# Altium footprint library BeaconBoard.PcbLib: 34 footprints (part 3 of 3)
Each footprint in its own frame and in the unit in brackets; x right, y up, seen from the top. Pads: shape width x height; smd on the part's side, far side on the other; paste and mask are expansions set on the pad; w line width, h text height; cw(c..) or ccw(c..) is an arc to the next point about the centre after c.
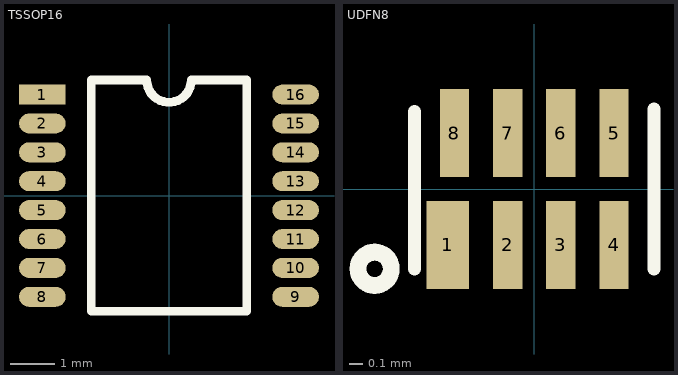
[diagram p2: the footprints below, top view; thin cyan lines are the x and y axes]

## TSSOP16 [mm]
pads (16):
  rect 1.05x0.45 smd: 1(-2.85,2.275)
  oval 1.05x0.45 smd: 2(-2.85,1.625) 3(-2.85,0.975) 4(-2.85,0.325) 5(-2.85,-0.325) 6(-2.85,-0.975) 7(-2.85,-1.625) 8(-2.85,-2.275) 9(2.85,-2.275) 10(2.85,-1.625) 11(2.85,-0.975) 12(2.85,-0.325) 13(2.85,0.325) 14(2.85,0.975) 15(2.85,1.625) 16(2.85,2.275)
Top Overlay:
  lines w0.2: -1.75,-2.6 1.75,-2.6 1.75,2.6 0.5,2.6 cw(c0,2.6) -0.5,2.6 -1.75,2.6 -1.75,-2.6
3D body "TSSOP16.step": height 1.09, standoff 0, extent -3.14,-2.5 3.14,2.5

## UDFN8 [mm]
height 0.37
pads (8):
  rect 0.32x0.66 smd mask+0.05: 1(-0.65,-0.42)
  rect 0.22x0.66 smd mask+0.05: 2(-0.2,-0.42) 3(0.2,-0.42) 4(0.6,-0.42) 5(0.6,0.42) 6(0.2,0.42) 7(-0.2,0.42) 8(-0.6,0.42)
Top Overlay:
  lines w0.1: -0.9,-0.6 -0.9,0.58 ; 0.9,-0.6 0.9,0.6
  lines w0.127: -1.325,-0.6 ccw(c-1.2,-0.6) -1.325,-0.599
3D body "UDFN8_1P20X1P80_ONS.step": height 0.56, standoff 0, extent -0.902,-0.597 0.902,0.597